# EAGLE library part HEADER-2X5 (library anykey)
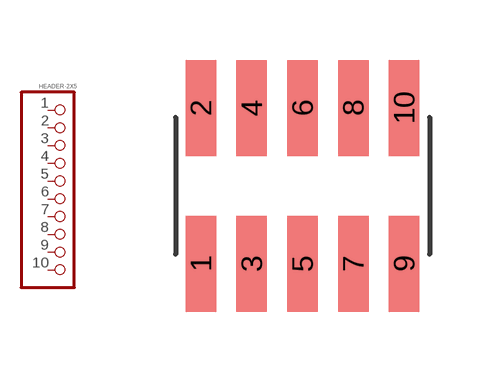
[diagram p16: symbol with the pads of 2X05_SMT; footprint 2X05_SMT]

Designator prefix -

## HEADER-2X5SMD-1.27MM  [2X05_SMT]
1  1  pas
2  2  pas
3  3  pas
4  4  pas
5  5  pas
6  6  pas
7  7  pas
8  8  pas
9  9  pas
10  10  pas

## Footprint 2X05_SMT (pad centres in mm)
1.27mm pitch 2x5 header, SMD
smd 0.762 x 2.4: 1 -2.54,-1.95; 2 -2.54,1.95; 3 -1.27,-1.95; 4 -1.27,1.95; 5 0,-1.95; 6 0,1.95; 7 1.27,-1.95; 8 1.27,1.95; 9 2.54,-1.95; 10 2.54,1.95